# EAGLE library part MAX4564EUA+T (library MAX4564)
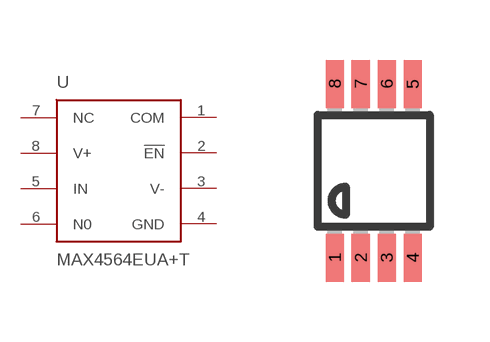
[diagram p0: symbol with the pads of UMAX-8; footprint UMAX-8]

Designator prefix U

## MAX4564EUA+T  [UMAX-8]
1  COM
2  !EN
3  V-
4  GND
5  IN
6  N0
7  NC
8  V+

## Footprint UMAX-8 (pad centres in mm)
micro MAX Package
smd 0.45 x 1.2: 1 -0.975,-2.175; 2 -0.325,-2.175; 3 0.325,-2.175; 4 0.975,-2.175; 5 0.975,2.175; 6 0.325,2.175; 7 -0.325,2.175; 8 -0.975,2.175